# Altium footprint library PcbLibrary.PcbLib: 6 footprints
Each footprint in its own frame and in the unit in brackets; x right, y up, seen from the top. Pads: shape width x height; smd on the part's side, far side on the other; paste and mask are expansions set on the pad; w line width, h text height; cw(c..) or ccw(c..) is an arc to the next point about the centre after c.
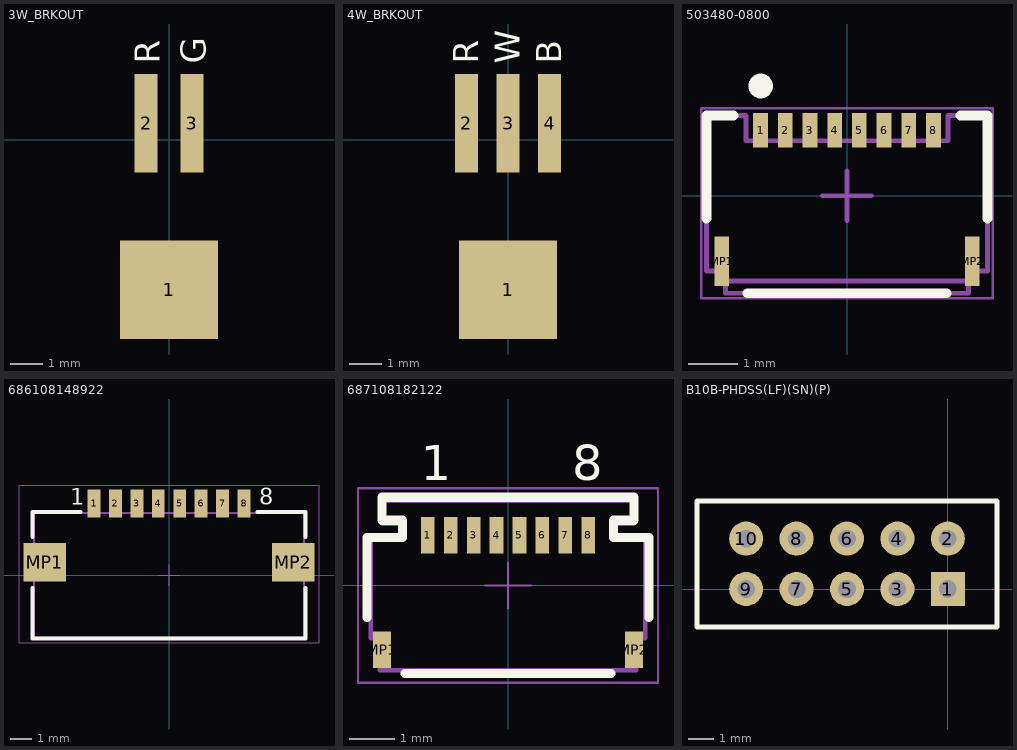
[diagram p0: the footprints below, top view; thin cyan lines are the x and y axes]

## 3W_BRKOUT [mm]
pads (3):
  rect 3x3 smd: 1(0,-4.572)
  rect 0.7x3 smd: 2(-0.7,0.508) 3(0.7,0.508)
Top Overlay:
  text "R" at -0.279,2.311 h0.76
  text "G" at 1.118,2.311 h0.76

## 4W_BRKOUT [mm]
pads (4):
  rect 3x3 smd: 1(0,-4.572)
  rect 0.7x3 smd: 2(-1.27,0.508) 3(0,0.508) 4(1.27,0.508)
Top Overlay:
  text "B" at 1.626,2.311 h0.76
  text "R" at -0.914,2.311 h0.76
  text "W" at 0.356,2.311 h0.76

## 503480-0800 [mm]
pads (10):
  rect 0.3x0.7 smd: 1(-1.75,1.325) 2(-1.25,1.325) 3(-0.75,1.325) 4(-0.25,1.325) 5(0.25,1.325) 6(0.75,1.325) 7(1.25,1.325) 8(1.75,1.325)
  rect 0.3x1 smd: MP1(-2.54,-1.325) MP2(2.54,-1.325)
Top Overlay:
  circle w0.25: c-1.75,2.225 r0.125
  lines w0.2: -2.85,-0.458 -2.85,1.625 -2.3,1.625 ; -2.019,-1.975 2.019,-1.975 ; 2.3,1.625 2.85,1.625 ; 2.85,-0.458 2.85,1.625
Component Body:
  lines w0.1: -2.46,-1.725 2.46,-1.725 ; -2.05,1.625 -2.05,1.115 2.05,1.115 2.05,1.625 2.85,1.625 2.85,-1.525 2.46,-1.525 2.46,-1.975 -2.46,-1.975 -2.46,-1.525 -2.85,-1.525 -2.85,1.625 -2.05,1.625
Component Outline:
  lines w0.05: -2.95,-2.075 2.95,-2.075 2.95,1.775 -2.95,1.775 -2.95,-2.075
  lines w0.1: -0.5,0 0.5,0 ; 0,-0.5 0,0.5
3D body "5034800800.stp": height 1.91, standoff 0.01, extent -2.85,-1.975 2.85,1.625

## 686108148922 [mm]
pads (10):
  rect 0.6x1.3 smd: 1(-3.5,3.35) 2(-2.5,3.35) 3(-1.5,3.35) 4(-0.5,3.35) 5(0.5,3.35) 6(1.5,3.35) 7(2.5,3.35) 8(3.5,3.35)
  rect 2x1.8 smd: MP1(-5.8,0.6) MP2(5.8,0.6)
Top Overlay:
  lines w0.2: -6.375,-0.6 -6.375,-2.95 6.375,-2.95 6.375,-0.6 ; -6.375,1.8 -6.375,2.95 -4.125,2.95 ; 4.125,2.95 6.375,2.95 6.375,1.8
  text "8" at 4.2,3.3 h0.76
  text "1" at -4.6,3.3 h0.76
Component Body:
  lines w0.1: -6.3,-2.9 -6.3,2.9 6.3,2.9 6.3,-2.9 -6.3,-2.9
Component Outline:
  lines w0.05: -0.5,0 0.5,0 ; 0,-0.5 0,0.5 ; -7,-3.15 -7,4.2 7,4.2 7,-3.15 -7,-3.15
3D body "686108148922.stp": height 2.27, standoff 0.02, extent -6.3,-2.9 6.3,3.6

## 687108182122 [mm]
pads (10):
  rect 0.3x0.8 smd: 1(-1.75,1.1) 2(-1.25,1.1) 3(-0.75,1.1) 4(-0.25,1.1) 5(0.25,1.1) 6(0.75,1.1) 7(1.25,1.1) 8(1.75,1.1)
  rect 0.4x0.8 smd: MP1(-2.75,-1.4) MP2(2.75,-1.4)
Top Overlay:
  lines w0.2: -3.075,-0.7 -3.075,1.05 -2.3,1.05 -2.3,1.425 -2.75,1.425 -2.75,1.925 2.75,1.925 2.75,1.425 2.3,1.425 2.3,1.05 3.075,1.05 3.075,-0.7 ; -2.25,-1.925 2.25,-1.925
  text "1" at -1.9,2.3 h0.76
  text "8" at 1.4,2.3 h0.76
Component Body:
  lines w0.1: -3,-1.15 -3,1.05 -2.3,1.05 -2.3,1.35 -2.75,1.35 -2.75,1.85 2.75,1.85 2.75,1.35 2.3,1.35 2.3,1.05 3,1.05 3,-1.15 2.8,-1.15 2.8,-1.85 -2.8,-1.85 -2.8,-1.15 -3,-1.15
Component Outline:
  lines w0.05: -0.5,0 0.5,0 ; 0,-0.5 0,0.5 ; -3.275,-2.125 -3.275,2.125 3.275,2.125 3.275,-2.125 -3.275,-2.125
3D body "687108182122.stp": height 0.98, standoff -0.01, extent -3,-1.85 3,1.85

## B10B-PHDSS(LF)(SN)(P) [mm]
pads (10):
  rect 1.35x1.35 / inner round 1.35 / far side rect 1.35x1.35 hole 0.7: 1(0,0)
  round 1.35 hole 0.7: 2(0,2) 3(-2,0) 4(-2,2) 5(-4,0) 6(-4,2) 7(-6,0) 8(-6,2) 9(-8,0) 10(-8,2)
Top Overlay:
  lines w0.2: -9.95,-1.516 -9.95,3.5 1.95,3.5 1.95,-1.5 -9.95,-1.5
Component Outline:
  lines w0.1: -9.95,-1.5 1.95,-1.5 ; -9.95,-1.016 -9.95,3.5 1.95,3.5 1.95,-1.016
3D body: height 6.5, standoff 0, extent -10.033,-1.603 2.032,3.604